# Altium schematic symbol library QUTMS_JST_PH.SchLib: 3 symbols
Pins are listed as number, name and electrical type; pins without a type are passive.

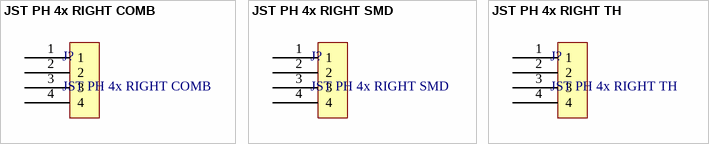
[diagram p0: symbols JST PH 4x RIGHT COMB to JST PH 4x RIGHT TH]

## JST PH 4x RIGHT COMB
designator J?
footprint JST PH 4x RIGHT COMB
pins: 1, 2, 3, 4

## JST PH 4x RIGHT SMD
designator J?
footprint JST PH 4x RIGHT SMD
pins: 1, 2, 3, 4

## JST PH 4x RIGHT TH
designator J?
footprint JST PH 4x RIGHT TH
pins: 1, 2, 3, 4